# EAGLE library part FAN7530M (library Fairchild_By_element14_Batch_1)
Critical Conduction Mode PFC Controller
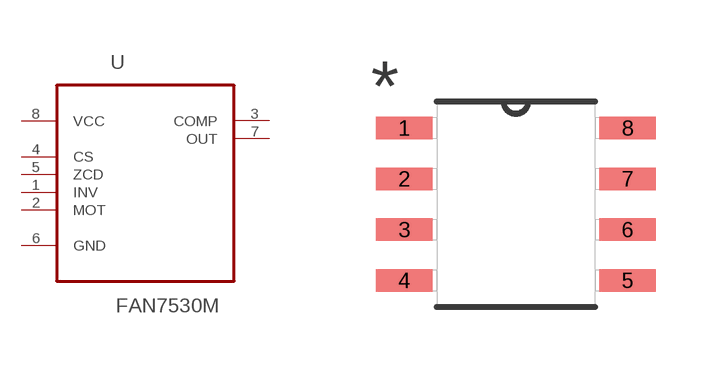
[diagram p183: symbol with the pads of SOP127P600X175-8N; footprint SOP127P600X175-8N]

Designator prefix U

## FAN7530M (MPN: FAN7530M; OC_FARNELL: 1495498; OC_NEWARK: 61M6163; PACKAGE: SOIC-8; SUPPLIER: FAIRCHILD SEMICONDUCTOR)  [SOP127P600X175-8N]
1  INV  in
2  MOT  in
3  COMP  out
4  CS  in
5  ZCD  in
6  GND  pas
7  OUT  out
8  VCC  pwr

## Footprint SOP127P600X175-8N (pad centres in mm)
smd 1.422 x 0.559: 1 -2.794,1.905; 2 -2.794,0.635; 3 -2.794,-0.635; 4 -2.794,-1.905; 5 2.794,-1.905; 6 2.794,-0.635; 7 2.794,0.635; 8 2.794,1.905